# Altium footprint library Fixed Inductors.PcbLib: 13 footprints
Each footprint in its own frame and in the unit in brackets; x right, y up, seen from the top. Pads: shape width x height; smd on the part's side, far side on the other; paste and mask are expansions set on the pad; w line width, h text height; cw(c..) or ccw(c..) is an arc to the next point about the centre after c.
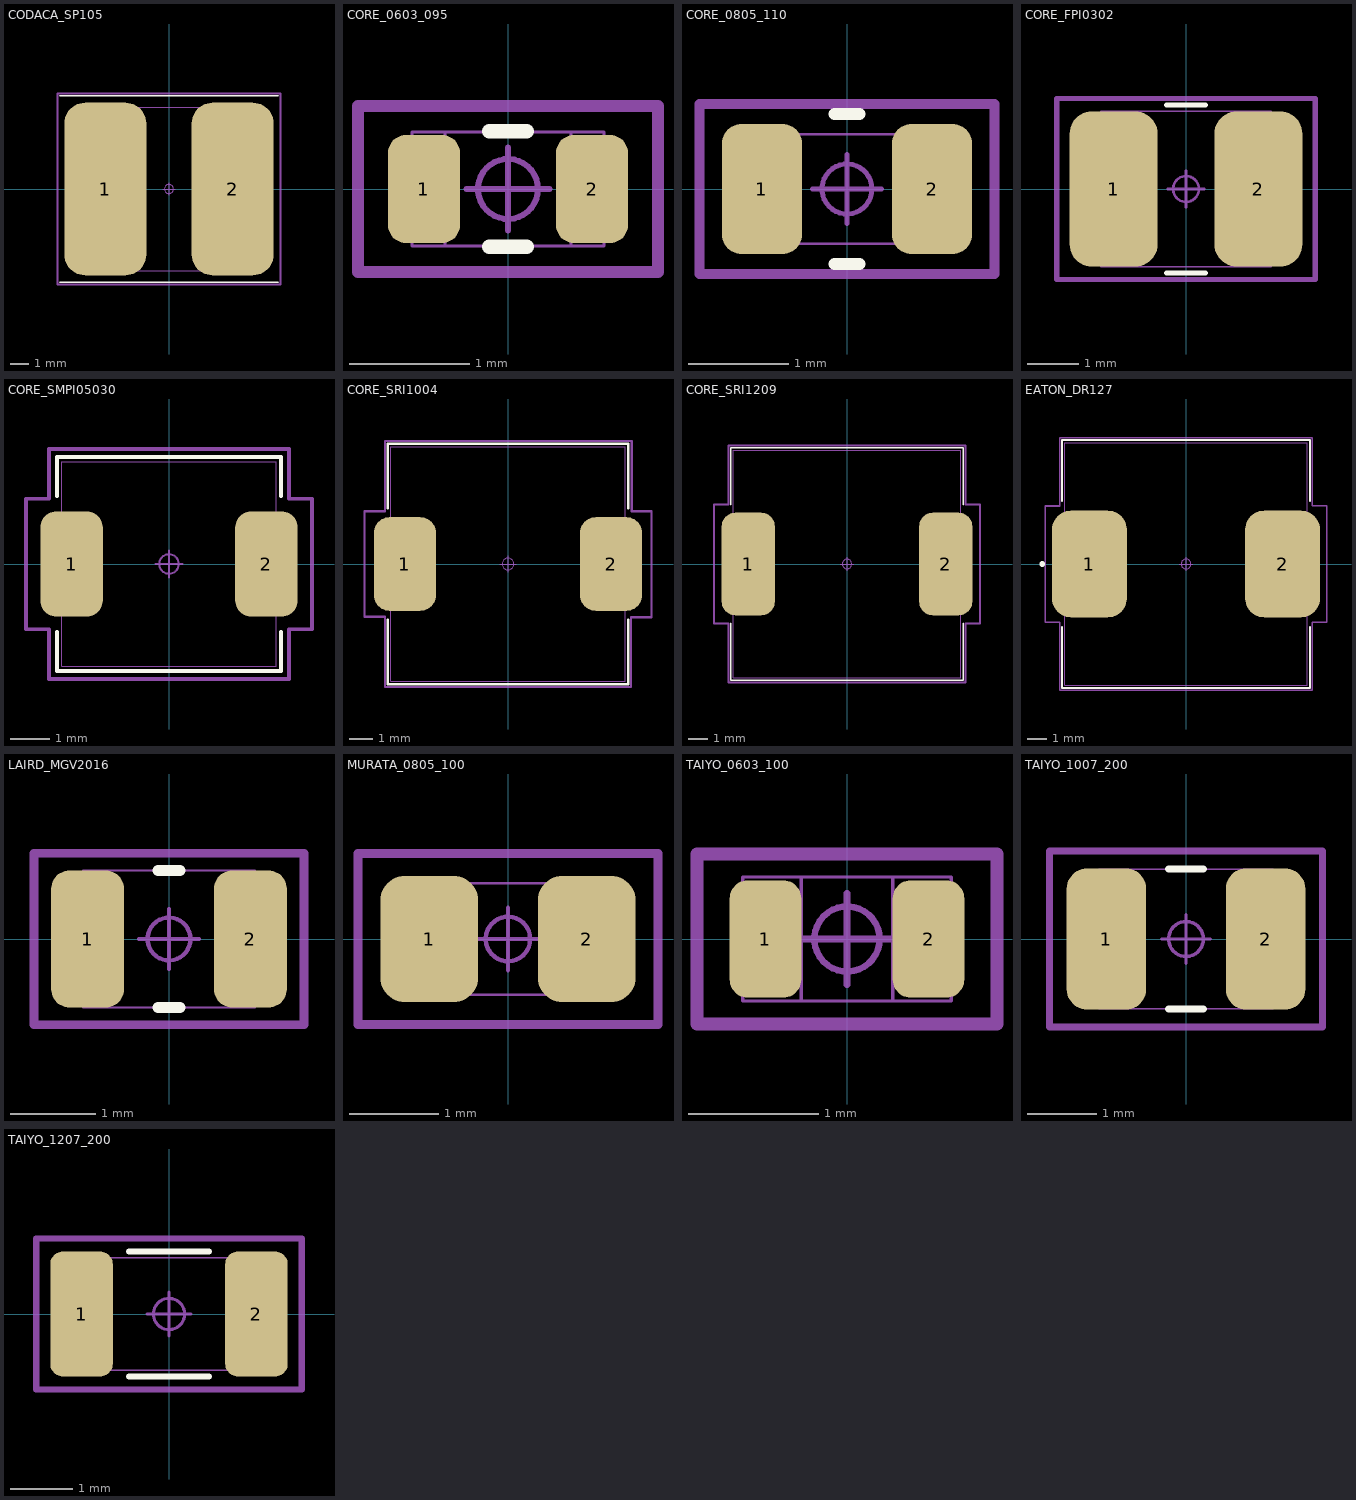
[diagram p0: the footprints below, top view; thin cyan lines are the x and y axes]

## CODACA_SP105 [mm]
pads (2):
  rrect50% 4.5x9.5 smd mask+0.04: 1(-3.5,0) 2(3.5,0)
Top Overlay:
  lines w0.1: -6,-5.125 6,-5.125 ; -6,5.125 6,5.125
Mechanical 13:
  lines w0.025: -4.9,-4.5 -4.9,4.5 4.9,4.5 4.9,-4.5 -4.9,-4.5
Mechanical 15:
  circle w0.05: c0,0 r0.25
  lines w0.05: -0.35,0 0.35,0 ; 0,-0.35 0,0.35
  lines w0.1: -6.125,-5.25 6.125,-5.25 6.125,5.25 -6.125,5.25 -6.125,-5.25
3D body "SP105.STEP": height 5.49, standoff 0, extent -4.905,-4.5 4.905,4.5

## CORE_0603_095 [mm]
height 0.95
pads (2):
  rrect49% 0.6x0.9 smd mask+0.04: 1(-0.7,0) 2(0.7,0)
Top Overlay:
  lines w0.12: -0.155,-0.48 0.155,-0.48 ; -0.155,0.48 0.155,0.48
Mechanical 13:
  lines w0.025: -0.525,-0.475 -0.525,0.475 ; 0.525,-0.475 0.525,0.475 ; -0.8,-0.475 0.8,-0.475 0.8,0.475 -0.8,0.475 -0.8,-0.475
Mechanical 15:
  circle w0.05: c0,0 r0.25
  lines w0.05: -0.345,0 0.345,0 ; 0,-0.345 0,0.345
  lines w0.1: -1.25,-0.69 -1.25,0.69 1.25,0.69 1.25,-0.69 -1.25,-0.69
3D body "IND_0603_095.step": height 0.8, standoff 0, extent -0.8,-0.475 0.8,0.475

## CORE_0805_110 [mm]
height 0.95
pads (2):
  rrect49% 0.8x1.3 smd mask+0.04: 1(-0.85,0) 2(0.85,0)
Top Overlay:
  lines w0.12: -0.125,-0.75 0.125,-0.75 ; -0.125,0.75 0.125,0.75
Mechanical 13:
  lines w0.025: -0.625,-0.55 -0.625,0.55 ; 0.625,-0.55 0.625,0.55 ; -1,-0.55 1,-0.55 1,0.55 -1,0.55 -1,-0.55
Mechanical 15:
  circle w0.05: c0,0 r0.25
  lines w0.05: -0.345,0 0.345,0 ; 0,-0.345 0,0.345
  lines w0.1: -1.475,-0.85 -1.475,0.85 1.475,0.85 1.475,-0.85 -1.475,-0.85
3D body "IND_0805_110.step": height 1.2, standoff 0, extent -1,-0.56 1,0.55

## CORE_FPI0302 [mm]
pads (2):
  rrect50% 1.7x3 smd mask+0.04: 1(-1.4,0) 2(1.4,0)
Top Overlay:
  lines w0.1: -0.375,-1.625 0.375,-1.625 ; -0.375,1.625 0.375,1.625
Mechanical 13:
  lines w0.025: -1.65,-1.5 -1.65,1.5 1.65,1.5 1.65,-1.5 -1.65,-1.5
Mechanical 15:
  circle w0.05: c0,0 r0.25
  lines w0.05: -0.35,0 0.35,0 ; 0,-0.35 0,0.35
  lines w0.1: -2.5,-1.75 -2.5,1.75 2.5,1.75 2.5,-1.75 -2.5,-1.75
3D body "FPI0302.step": height 2.05, standoff -0.05, extent -1.668,-1.5 1.668,1.5

## CORE_SMPI05030 [mm]
pads (2):
  rrect50% 1.6x2.7 smd mask+0.04: 1(-2.5,0) 2(2.5,0)
Top Overlay:
  lines w0.1: -2.875,-1.75 -2.875,-2.75 2.875,-2.75 2.875,-1.75 ; -2.875,1.75 -2.875,2.75 2.875,2.75 2.875,1.75
Mechanical 13:
  lines w0.025: -2.75,-2.625 2.75,-2.625 2.75,2.625 -2.75,2.625 -2.75,-2.625
Mechanical 15:
  circle w0.05: c0,0 r0.25
  lines w0.05: -0.35,0 0.35,0 ; 0,-0.35 0,0.35
  lines w0.1: -3.675,-1.675 -3.075,-1.675 -3.075,-2.95 3.075,-2.95 3.075,-1.675 3.675,-1.675 3.675,1.675 3.075,1.675 3.075,2.95 -3.075,2.95 -3.075,1.675 -3.675,1.675 -3.675,-1.675
3D body "SMPI05030.STEP": height 3, standoff 0, extent -2.75,-2.625 2.75,2.625

## CORE_SRI1004 [mm]
pads (2):
  rrect50% 2.65x4 smd mask+0.04: 1(-4.4,0) 2(4.4,0)
Top Overlay:
  lines w0.1: -5.125,-2.375 -5.125,-5.125 5.125,-5.125 5.125,-2.375 ; -5.125,2.375 -5.125,5.125 5.125,5.125 5.125,2.375
Mechanical 13:
  lines w0.025: -5,-5 5,-5 5,5 -5,5 -5,-5
Mechanical 15:
  circle w0.05: c0,0 r0.25
  lines w0.05: -0.35,0 0.35,0 ; 0,-0.35 0,0.35
  lines w0.1: -6.125,-2.25 -5.25,-2.25 -5.25,-5.25 5.25,-5.25 5.25,-2.275 6.125,-2.275 6.125,2.25 5.275,2.25 5.275,5.25 -5.25,5.25 -5.25,2.25 -6.125,2.25 -6.125,-2.25
3D body "SRI1004.step": height 4.7, standoff 0, extent -5.2,-5 5.2,5

## CORE_SRI1209 [mm]
pads (2):
  rrect50% 2.8x5.4 smd mask+0.04: 1(-5.2,0) 2(5.2,0)
Top Overlay:
  lines w0.1: -6.125,-3.125 -6.125,-6.125 6.125,-6.125 6.125,-3.125 ; -6.125,3.125 -6.125,6.125 6.125,6.125 6.125,3.125
Mechanical 13:
  lines w0.025: -6,-6 -6,6 6,6 6,-6 -6,-6
Mechanical 15:
  circle w0.05: c0,0 r0.25
  lines w0.05: -0.35,0 0.35,0 ; 0,-0.35 0,0.35
  lines w0.1: -7,-3.125 -7,3.125 -6.25,3.125 -6.25,6.25 6.25,6.25 6.25,3.125 7,3.125 7,-3.125 6.25,-3.125 6.25,-6.25 -6.25,-6.25 -6.25,-3.125 -7,-3.125
3D body "SRI1209.step": height 10, standoff 0, extent -6,-6 6,6

## EATON_DR127 [mm]
pads (2):
  rrect50% 3.85x5.5 smd mask+0.04: 1(-4.975,0) 2(4.975,0)
Top Overlay:
  circle w0.152: c-7.404,0 r0.076
  lines w0.1: -6.375,-3.25 -6.375,-6.375 6.375,-6.375 6.375,-3.25 ; -6.375,3.25 -6.375,6.375 6.375,6.375 6.375,3.25
Mechanical 13:
  lines w0.025: -6.248,-6.248 6.248,-6.248 6.248,6.248 -6.248,6.248 -6.248,-6.248
Mechanical 15:
  circle w0.05: c0,0 r0.25
  lines w0.05: -0.35,0 0.35,0 ; 0,-0.35 0,0.35
  lines w0.1: -7.25,2.998 -6.502,2.998 -6.502,6.502 6.502,6.502 6.502,3 7.25,3 7.25,-3 6.502,-3 6.502,-6.502 -6.502,-6.502 -6.502,-3 -7.25,-3 -7.25,3
3D body "User Library-DR127-1.step": height 8, standoff 0, extent -6.25,-6.25 6.25,6.25

## LAIRD_MGV2016 [mm]
pads (2):
  rrect50% 0.85x1.6 smd mask+0.04: 1(-0.95,0) 2(0.95,0)
Top Overlay:
  lines w0.127: -0.13,-0.8 0.13,-0.8 ; -0.13,0.8 0.13,0.8
Mechanical 13:
  lines w0.025: -1,-0.8 -1,0.8 1,0.8 1,-0.8 -1,-0.8
Mechanical 15:
  circle w0.05: c0,0 r0.25
  lines w0.05: -0.35,0 0.35,0 ; 0,-0.35 0,0.35
  lines w0.1: -1.575,-1 -1.575,1 1.575,1 1.575,-1 -1.575,-1
3D body "step_temp.STEP": height 1, standoff 0, extent -1,-0.8 1,0.8

## MURATA_0805_100 [mm]
pads (2):
  rrect50% 1.1x1.42 smd: 1(-0.885,0) 2(0.885,0)
Mechanical 13:
  lines w0.025: -1,-0.625 1,-0.625 1,0.625 -1,0.625 -1,-0.625
Mechanical 15:
  circle w0.05: c0,0 r0.25
  lines w0.05: -0.35,0 0.35,0 ; 0,-0.35 0,0.35
  lines w0.1: -1.685,-0.96 1.685,-0.96 1.685,0.96 -1.685,0.96 -1.685,-0.96
3D body "LQM21PN2R2NGCD.STEP": height 1, standoff 0, extent -1,-0.625 1,0.625

## TAIYO_0603_100 [mm]
height 1
pads (2):
  rrect50% 0.55x0.9 smd mask+0.04: 1(-0.625,0) 2(0.625,0)
Mechanical 13:
  lines w0.025: -0.8,-0.4 -0.8,0.4 ; -0.35,-0.475 -0.35,0.475 ; 0.35,-0.475 0.35,0.475 ; 0.8,-0.4 0.8,0.4 ; -0.8,-0.475 0.8,-0.475 0.8,0.475 -0.8,0.475 -0.8,-0.475
Mechanical 15:
  circle w0.05: c0,0 r0.25
  lines w0.05: -0.35,0 0.35,0 ; 0,-0.35 0,0.35
  lines w0.1: -1.15,-0.65 -1.15,0.65 1.15,0.65 1.15,-0.65 -1.15,-0.65
3D body "IND_0603_100.step": height 0.85, standoff 0, extent -0.8,-0.475 0.8,0.475

## TAIYO_1007_200 [mm]
height 2
pads (2):
  rrect50% 1.14x2.02 smd mask+0.04: 1(-1.14,0) 2(1.14,0)
Top Overlay:
  lines w0.1: -0.25,-1 0.25,-1 ; -0.25,1 0.25,1
Mechanical 13:
  lines w0.025: -1.25,-1 1.25,-1 1.25,1 -1.25,1 -1.25,-1
Mechanical 15:
  circle w0.05: c0,0 r0.25
  lines w0.05: -0.35,0 0.35,0 ; 0,-0.35 0,0.35
  lines w0.1: -1.958,-1.258 1.958,-1.258 1.958,1.258 -1.958,1.258 -1.958,-1.258
3D body "LBR2518T1R0M.STEP": height 1.8, standoff 0, extent -1.25,-1 1.25,1

## TAIYO_1207_200 [mm]
height 2
pads (2):
  rrect40% 1x2 smd mask+0.04: 1(-1.4,0) 2(1.4,0)
Top Overlay:
  lines w0.1: -0.64,-1 0.64,-1 ; -0.64,1 0.64,1
Mechanical 13:
  lines w0.025: -1.1,-0.9 -1.1,0.9 ; 1.1,-0.9 1.1,0.9 ; -1.6,-0.9 1.6,-0.9 1.6,0.9 -1.6,0.9 -1.6,-0.9
Mechanical 15:
  circle w0.05: c0,0 r0.25
  lines w0.05: -0.35,0 0.35,0 ; 0,-0.35 0,0.35
  lines w0.1: -2.125,-1.21 2.125,-1.21 2.125,1.21 -2.125,1.21 -2.125,-1.21
3D body "INDC3218X200.STEP": height 2, standoff 0, extent -1.6,-0.9 1.6,0.9